# Altium integrated library Cypress PLD Delta39K.IntLib: 82 symbols (part 6 of 21)
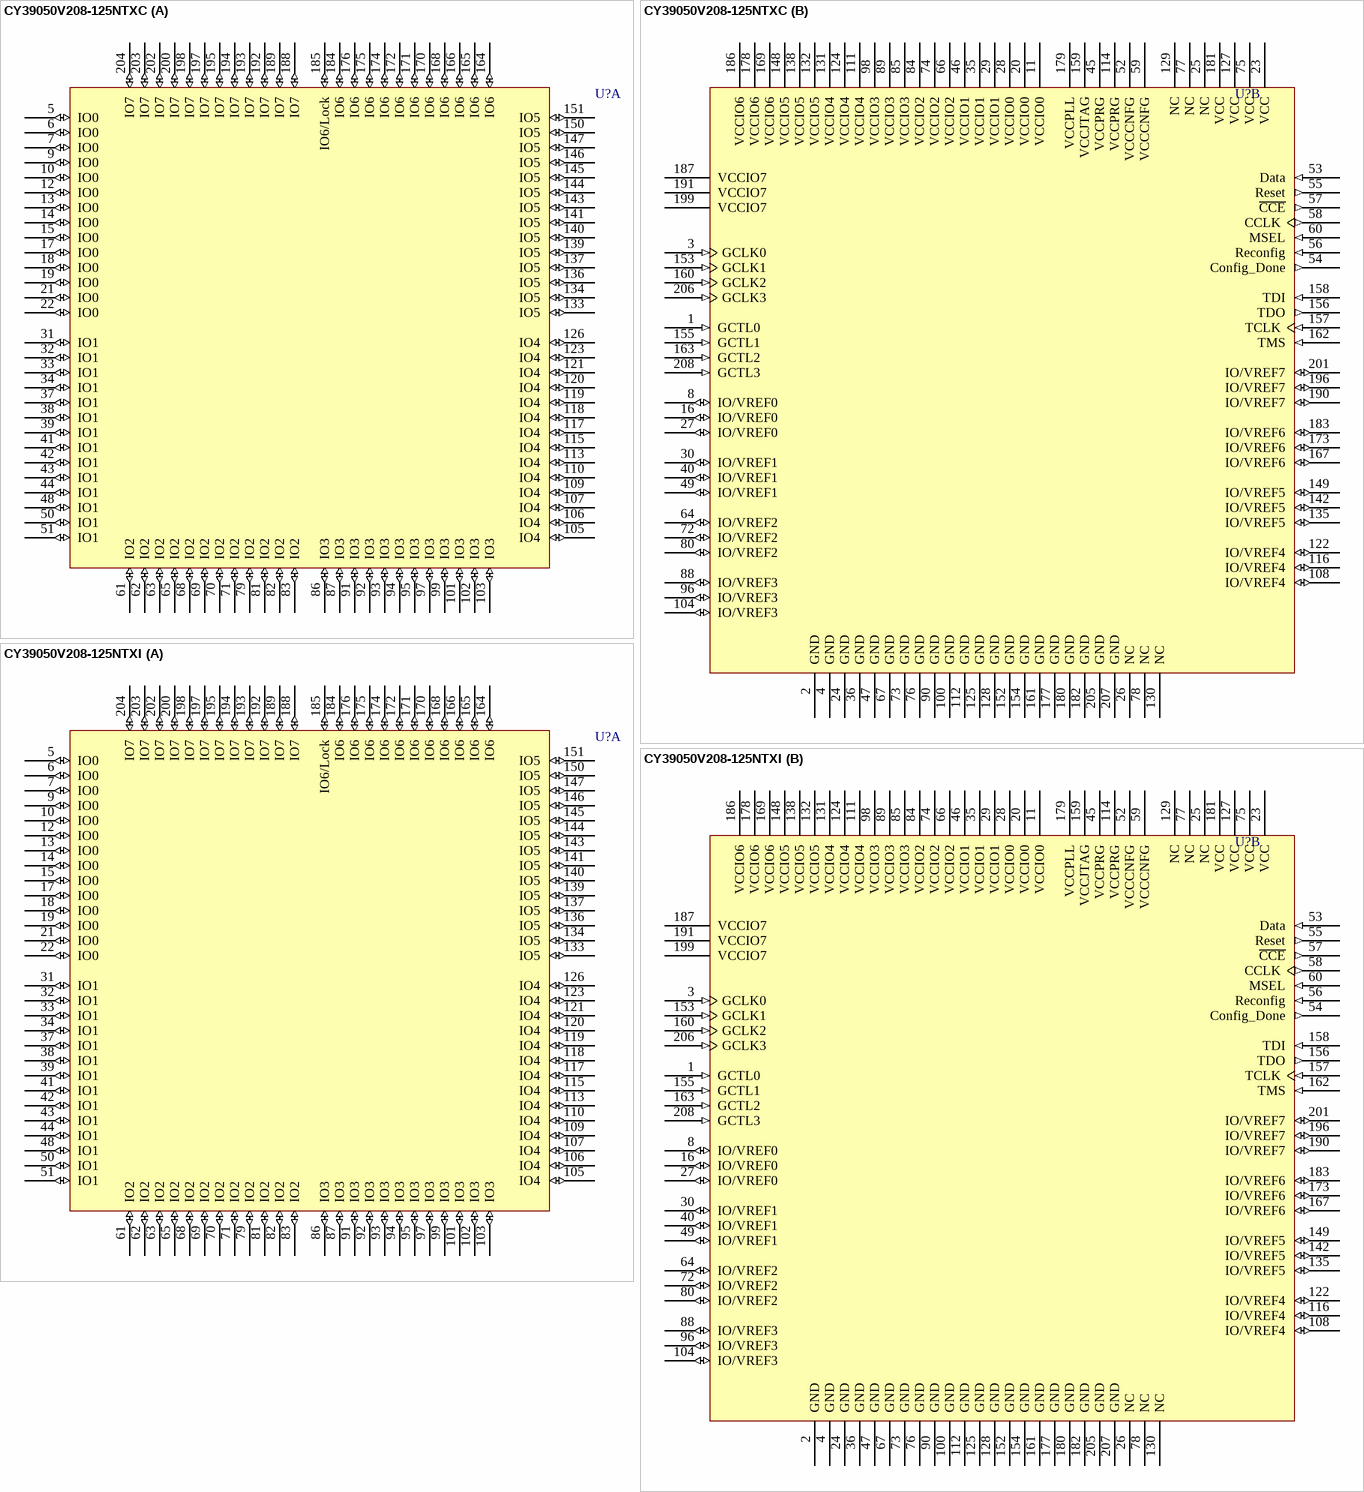
[diagram p83: symbols CY39050V208-125NTXC to CY39050V208-125NTXI]

## CY39050V208-125NTXI
designator U?
Delta39K ISR CPLD, 3.3V/2.5V, 50K Gates, 125 MHz, 208-Lead EQFP, Industrial Grade, Pb-Free; Published: 6-Oct-2005; LatestRevisionDate: 13-Apr-2006; LatestRevisionNote: IPC-7351 Footprint Added.; DatasheetVersion: revI, Mar-2005; PackageVersion: Mar-2002; PackageReference: NT208; Publisher: Altium Limited; PackageDescription: 208-Pin Plastic Shrink Quad Flat Pack 0.5 mm Pitch; ComponentLink1Description: Manufacturer Link; ComponentLink1URL: http://www.cypress.com/; ComponentLink2Description: Datasheet; ComponentLink2URL: http://www.cypress.com/portal/server.pt/gateway/PTARGS_0_601270_1522_209_0_43/http%3B/sjapp20.mis.cypress.com%3B7001/publishedcontent/publish/design_resources/datasheets/contents/cy39030v_5.pdf
footprint NT208_N (Shrink QFP, 208-Leads, Body 28x28mm, Pitch 0.5mm, IPC Medium Density)
footprint NT208_L (Shrink QFP, 208-Leads, Body 28x28mm, Pitch 0.5mm, IPC High Density)
footprint NT208_M (Shrink QFP, 208-Leads, Body 28x28mm, Pitch 0.5mm, IPC Low Density)
3D model CY39050V208-NT208 (208-Pin Plastic Shrink Quad Flat Pack 0.5 mm Pitch)
part A pins: 5 IO0 (io) "IO for Bank 0", 6 IO0 (io) "IO for Bank 0", 7 IO0 (io) "IO for Bank 0", 9 IO0 (io) "IO for Bank 0", 10 IO0 (io) "IO for Bank 0", 12 IO0 (io) "IO for Bank 0", 13 IO0 (io) "IO for Bank 0", 14 IO0 (io) "IO for Bank 0", 15 IO0 (io) "IO for Bank 0", 17 IO0 (io) "IO for Bank 0", 18 IO0 (io) "IO for Bank 0", 19 IO0 (io) "IO for Bank 0", 21 IO0 (io) "IO for Bank 0", 22 IO0 (io) "IO for Bank 0", 31 IO1 (io) "IO for Bank 1", 32 IO1 (io) "IO for Bank 1", 33 IO1 (io) "IO for Bank 1", 34 IO1 (io) "IO for Bank 1", 37 IO1 (io) "IO for Bank 1", 38 IO1 (io) "IO for Bank 1", 39 IO1 (io) "IO for Bank 1", 41 IO1 (io) "IO for Bank 1", 42 IO1 (io) "IO for Bank 1", 43 IO1 (io) "IO for Bank 1", 44 IO1 (io) "IO for Bank 1", 48 IO1 (io) "IO for Bank 1", 50 IO1 (io) "IO for Bank 1", 51 IO1 (io) "IO for Bank 1", 61 IO2 (io) "IO for Bank 2", 62 IO2 (io) "IO for Bank 2", 63 IO2 (io) "IO for Bank 2", 65 IO2 (io) "IO for Bank 2", 68 IO2 (io) "IO for Bank 2", 69 IO2 (io) "IO for Bank 2", 70 IO2 (io) "IO for Bank 2", 71 IO2 (io) "IO for Bank 2", 79 IO2 (io) "IO for Bank 2", 81 IO2 (io) "IO for Bank 2", 82 IO2 (io) "IO for Bank 2", 83 IO2 (io) "IO for Bank 2", 86 IO3 (io) "IO for Bank 3", 87 IO3 (io) "IO for Bank 3", 91 IO3 (io) "IO for Bank 3", 92 IO3 (io) "IO for Bank 3", 93 IO3 (io) "IO for Bank 3", 94 IO3 (io) "IO for Bank 3", 95 IO3 (io) "IO for Bank 3", 97 IO3 (io) "IO for Bank 3", 99 IO3 (io) "IO for Bank 3", 101 IO3 (io) "IO for Bank 3", 102 IO3 (io) "IO for Bank 3", 103 IO3 (io) "IO for Bank 3", 105 IO4 (io) "IO for Bank 4", 106 IO4 (io) "IO for Bank 4", 107 IO4 (io) "IO for Bank 4", 109 IO4 (io) "IO for Bank 4", 110 IO4 (io) "IO for Bank 4", 113 IO4 (io) "IO for Bank 4", 115 IO4 (io) "IO for Bank 4", 117 IO4 (io) "IO for Bank 4", 118 IO4 (io) "IO for Bank 4", 119 IO4 (io) "IO for Bank 4", 120 IO4 (io) "IO for Bank 4", 121 IO4 (io) "IO for Bank 4", 123 IO4 (io) "IO for Bank 4", 126 IO4 (io) "IO for Bank 4", 133 IO5 (io) "IO for Bank 5", 134 IO5 (io) "IO for Bank 5", 136 IO5 (io) "IO for Bank 5", 137 IO5 (io) "IO for Bank 5", 139 IO5 (io) "IO for Bank 5", 140 IO5 (io) "IO for Bank 5", 141 IO5 (io) "IO for Bank 5", 143 IO5 (io) "IO for Bank 5", 144 IO5 (io) "IO for Bank 5", 145 IO5 (io) "IO for Bank 5", 146 IO5 (io) "IO for Bank 5", 147 IO5 (io) "IO for Bank 5", 150 IO5 (io) "IO for Bank 5", 151 IO5 (io) "IO for Bank 5", 164 IO6 (io) "IO for Bank 6", 165 IO6 (io) "IO for Bank 6", 166 IO6 (io) "IO for Bank 6", 168 IO6 (io) "IO for Bank 6", 170 IO6 (io) "IO for Bank 6", 171 IO6 (io) "IO for Bank 6", 172 IO6 (io) "IO for Bank 6", 174 IO6 (io) "IO for Bank 6", 175 IO6 (io) "IO for Bank 6", 176 IO6 (io) "IO for Bank 6", 184 IO6 (io) "IO for Bank 6", 185 IO6/Lock (io) "IO in Bank 6 or PLL lock output signal", 188 IO7 (io) "IO for Bank 7", 189 IO7 (io) "IO for Bank 7", 192 IO7 (io) "IO for Bank 7", 193 IO7 (io) "IO for Bank 7", 194 IO7 (io) "IO for Bank 7", 195 IO7 (io) "IO for Bank 7", 197 IO7 (io) "IO for Bank 7", 198 IO7 (io) "IO for Bank 7", 200 IO7 (io) "IO for Bank 7", 202 IO7 (io) "IO for Bank 7", 203 IO7 (io) "IO for Bank 7", 204 IO7 (io) "IO for Bank 7"
part B pins: 1 GCTL0 (in) "Global Control signal 0", 2 GND (power) "Ground", 3 GCLK0 (in) "Global Clock signal 0", 4 GND (power) "Ground", 8 IO/VREF0 (io) "IO or Reference Voltage for Bank 0", 11 VCCIO0 (power) "VCC for I/O bank 0", 16 IO/VREF0 (io) "IO or Reference Voltage for Bank 0", 20 VCCIO0 (power) "VCC for I/O bank 0", 23 VCC (power) "Operating Voltage", 24 GND (power) "Ground", 25 NC "No Connection", 26 NC "No Connection", 27 IO/VREF0 (io) "IO or Reference Voltage for Bank 0", 28 VCCIO0 (power) "VCC for I/O bank 0", 29 VCCIO1 (power) "VCC for I/O bank 1", 30 IO/VREF1 (io) "IO or Reference Voltage for Bank 1", 35 VCCIO1 (power) "VCC for I/O bank 1", 36 GND (power) "Ground", 40 IO/VREF1 (io) "IO or Reference Voltage for Bank 1", 45 VCCPRG (power) "VCC for programming Self-Boot solution embedded boot PROM", 46 VCCIO1 (power) "VCC for I/O bank 1", 47 GND (power) "Ground", 49 IO/VREF1 (io) "IO or Reference Voltage for Bank 1", 52 VCCCNFG (power) "VCC for Configuration port", 53 Data (in) "Pin to receive configuration data from the external boot PROM", 54 Config_Done (out) "Flag indicating that configuration is complete", 55 Reset (out) "Reset signal to interface with the external boot PROM", 56 Reconfig (in) "Pin to start configuration of Delta39K", 57 ~{CCE} (out) "Chip select for the external boot PROM (active low)", 58 CCLK (out) "Configuration Clock for serial interface with the external boot PROM", 59 VCCCNFG (power) "VCC for Configuration port", 60 MSEL (in) "Mode Select Pin", 64 IO/VREF2 (io) "IO or Reference Voltage for Bank 2", 66 VCCIO2 (power) "VCC for I/O bank 2", 67 GND (power) "Ground", 72 IO/VREF2 (io) "IO or Reference Voltage for Bank 2", 73 GND (power) "Ground", 74 VCCIO2 (power) "VCC for I/O bank 2", 75 VCC (power) "Operating Voltage", 76 GND (power) "Ground", 77 NC "No Connection", 78 NC "No Connection", 80 IO/VREF2 (io) "IO or Reference Voltage for Bank 2", 84 VCCIO2 (power) "VCC for I/O bank 2", 85 VCCIO3 (power) "VCC for I/O bank 3", 88 IO/VREF3 (io) "IO or Reference Voltage for Bank 3", 89 VCCIO3 (power) "VCC for I/O bank 3", 90 GND (power) "Ground", 96 IO/VREF3 (io) "IO or Reference Voltage for Bank 3", 98 VCCIO3 (power) "VCC for I/O bank 3", 100 GND (power) "Ground", 104 IO/VREF3 (io) "IO or Reference Voltage for Bank 3", 108 IO/VREF4 (io) "IO or Reference Voltage for Bank 4", 111 VCCIO4 (power) "VCC for I/O bank 4", 112 GND (power) "Ground", 114 VCCPRG (power) "VCC for programming Self-Boot solution embedded boot PROM", 116 IO/VREF4 (io) "IO or Reference Voltage for Bank 4", 122 IO/VREF4 (io) "IO or Reference Voltage for Bank 4", 124 VCCIO4 (power) "VCC for I/O bank 4", 125 GND (power) "Ground", 127 VCC (power) "Operating Voltage", 128 GND (power) "Ground", 129 NC "No Connection", 130 NC "No Connection", 131 VCCIO4 (power) "VCC for I/O bank 4", 132 VCCIO5 (power) "VCC for I/O bank 5", 135 IO/VREF5 (io) "IO or Reference Voltage for Bank 5", 138 VCCIO5 (power) "VCC for I/O bank 5", 142 IO/VREF5 (io) "IO or Reference Voltage for Bank 5", 148 VCCIO5 (power) "VCC for I/O bank 5", 149 IO/VREF5 (io) "IO or Reference Voltage for Bank 5", 152 GND (power) "Ground", 153 GCLK1 (in) "Global Clock signal 1", 154 GND (power) "Ground", 155 GCTL1 (in) "Global Control signal 1", 156 TDO (out) "JTAG Test Data Out", 157 TCLK (in) "JTAG Test Clock", 158 TDI (in) "JTAG Test Data In", 159 VCCJTAG (power) "VCC for JTAG pins", 160 GCLK2 (in) "Global Clock signal 2", 161 GND (power) "Ground", 162 TMS (in) "JTAG Test Mode Select", 163 GCTL2 (in) "Global Control signal 2", 167 IO/VREF6 (io) "IO or Reference Voltage for Bank 6", 169 VCCIO6 (power) "VCC for I/O bank 6", 173 IO/VREF6 (io) "IO or Reference Voltage for Bank 6", 177 GND (power) "Ground", 178 VCCIO6 (power) "VCC for I/O bank 6", 179 VCCPLL (power) "VCC for PLL", 180 GND (power) "Ground", 181 VCC (power) "Operating Voltage", 182 GND (power) "Ground", 183 IO/VREF6 (io) "IO or Reference Voltage for Bank 6", 186 VCCIO6 (power) "VCC for I/O bank 6", 187 VCCIO7 (power) "VCC for I/O bank 7", 190 IO/VREF7 (io) "IO or Reference Voltage for Bank 7", 191 VCCIO7 (power) "VCC for I/O bank 7", 196 IO/VREF7 (io) "IO or Reference Voltage for Bank 7", 199 VCCIO7 (power) "VCC for I/O bank 7", 201 IO/VREF7 (io) "IO or Reference Voltage for Bank 7", 205 GND (power) "Ground", 206 GCLK3 (in) "Global Clock signal 3", 207 GND (power) "Ground", 208 GCTL3 (in) "Global Control signal 3"

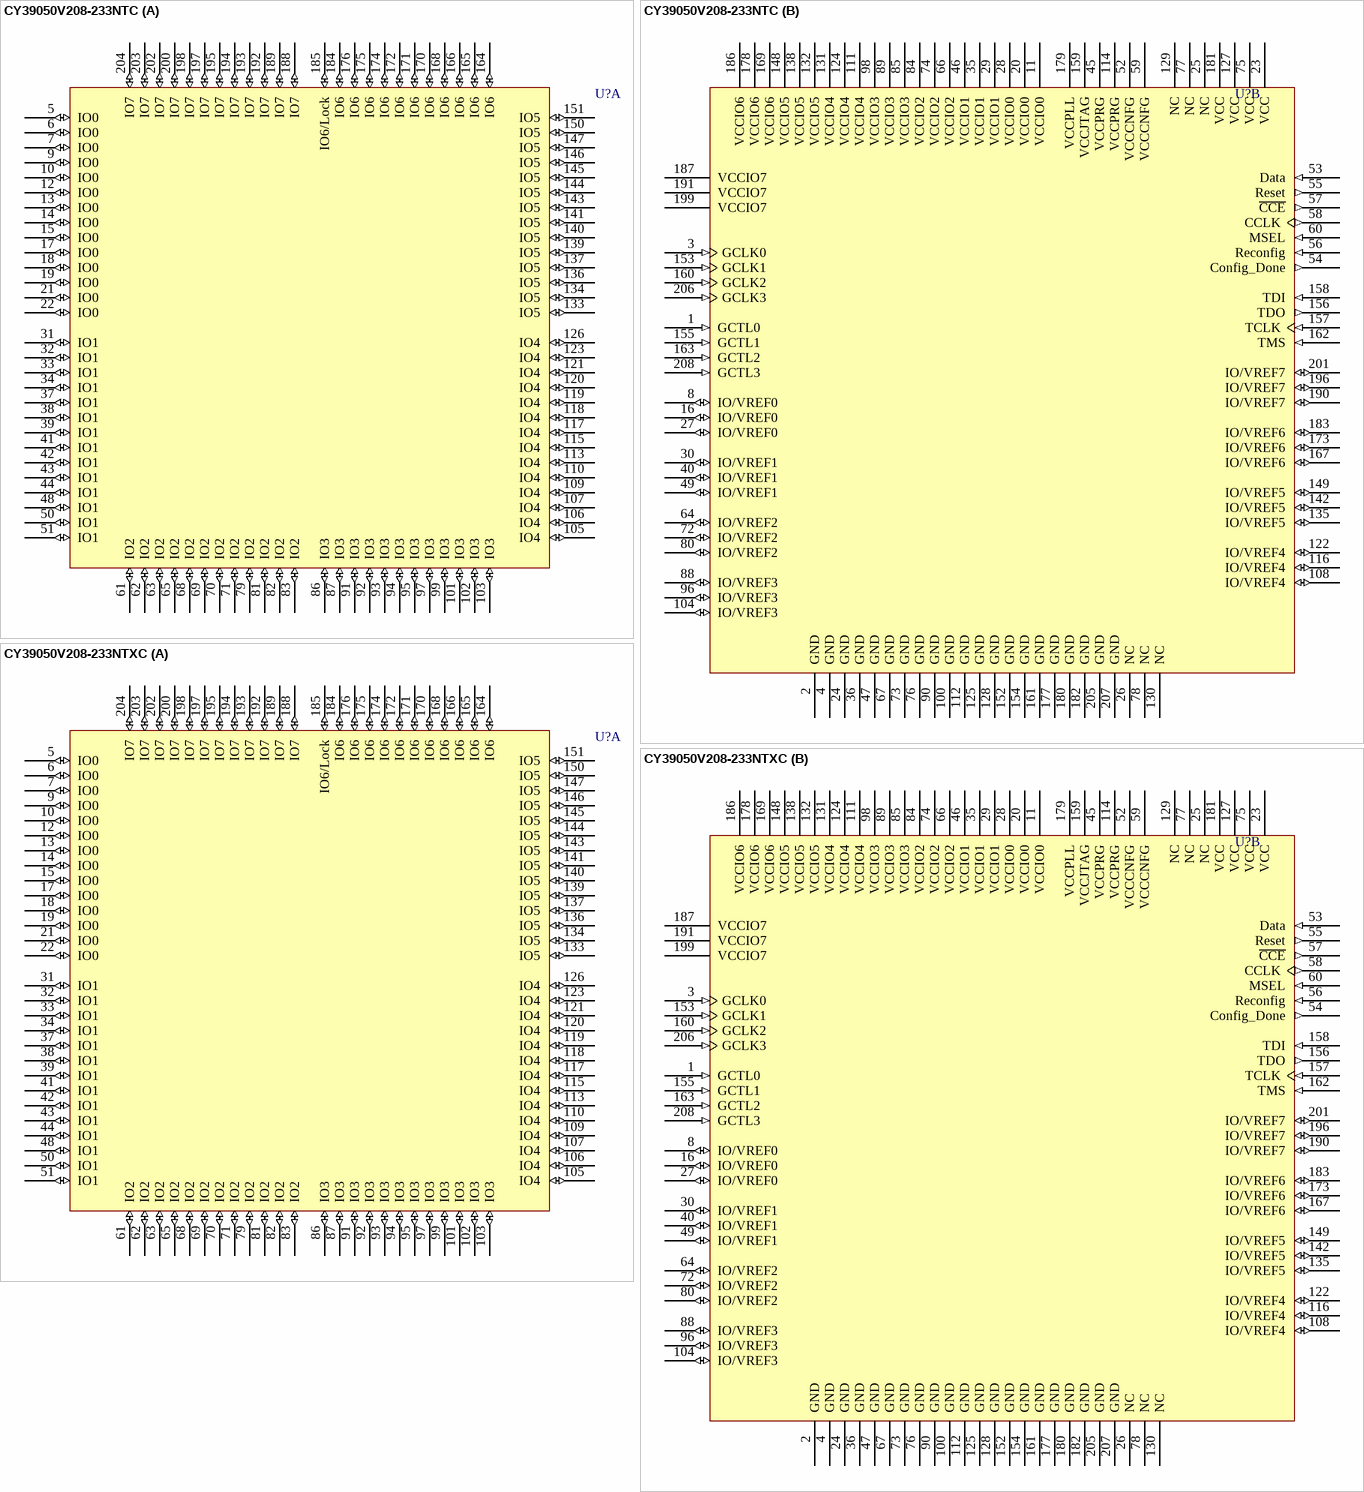
[diagram p13: symbols CY39050V208-233NTC to CY39050V208-233NTXC]

## CY39050V208-233NTC
designator U?
Delta39K ISR CPLD, 3.3V/2.5V, 50K Gates, 233 MHz, 208-Lead EQFP, Commercial Grade; Published: 6-Oct-2005; LatestRevisionDate: 13-Apr-2006; LatestRevisionNote: IPC-7351 Footprint Added.; DatasheetVersion: revI, Mar-2005; PackageVersion: Mar-2002; PackageReference: NT208; Publisher: Altium Limited; PackageDescription: 208-Pin Plastic Shrink Quad Flat Pack 0.5 mm Pitch; ComponentLink1Description: Manufacturer Link; ComponentLink1URL: http://www.cypress.com/; ComponentLink2Description: Datasheet; ComponentLink2URL: http://www.cypress.com/portal/server.pt/gateway/PTARGS_0_601270_1522_209_0_43/http%3B/sjapp20.mis.cypress.com%3B7001/publishedcontent/publish/design_resources/datasheets/contents/cy39030v_5.pdf
footprint NT208_N (Shrink QFP, 208-Leads, Body 28x28mm, Pitch 0.5mm, IPC Medium Density)
footprint NT208_L (Shrink QFP, 208-Leads, Body 28x28mm, Pitch 0.5mm, IPC High Density)
footprint NT208_M (Shrink QFP, 208-Leads, Body 28x28mm, Pitch 0.5mm, IPC Low Density)
3D model CY39050V208-NT208 (208-Pin Plastic Shrink Quad Flat Pack 0.5 mm Pitch)
part A pins: 5 IO0 (io) "IO for Bank 0", 6 IO0 (io) "IO for Bank 0", 7 IO0 (io) "IO for Bank 0", 9 IO0 (io) "IO for Bank 0", 10 IO0 (io) "IO for Bank 0", 12 IO0 (io) "IO for Bank 0", 13 IO0 (io) "IO for Bank 0", 14 IO0 (io) "IO for Bank 0", 15 IO0 (io) "IO for Bank 0", 17 IO0 (io) "IO for Bank 0", 18 IO0 (io) "IO for Bank 0", 19 IO0 (io) "IO for Bank 0", 21 IO0 (io) "IO for Bank 0", 22 IO0 (io) "IO for Bank 0", 31 IO1 (io) "IO for Bank 1", 32 IO1 (io) "IO for Bank 1", 33 IO1 (io) "IO for Bank 1", 34 IO1 (io) "IO for Bank 1", 37 IO1 (io) "IO for Bank 1", 38 IO1 (io) "IO for Bank 1", 39 IO1 (io) "IO for Bank 1", 41 IO1 (io) "IO for Bank 1", 42 IO1 (io) "IO for Bank 1", 43 IO1 (io) "IO for Bank 1", 44 IO1 (io) "IO for Bank 1", 48 IO1 (io) "IO for Bank 1", 50 IO1 (io) "IO for Bank 1", 51 IO1 (io) "IO for Bank 1", 61 IO2 (io) "IO for Bank 2", 62 IO2 (io) "IO for Bank 2", 63 IO2 (io) "IO for Bank 2", 65 IO2 (io) "IO for Bank 2", 68 IO2 (io) "IO for Bank 2", 69 IO2 (io) "IO for Bank 2", 70 IO2 (io) "IO for Bank 2", 71 IO2 (io) "IO for Bank 2", 79 IO2 (io) "IO for Bank 2", 81 IO2 (io) "IO for Bank 2", 82 IO2 (io) "IO for Bank 2", 83 IO2 (io) "IO for Bank 2", 86 IO3 (io) "IO for Bank 3", 87 IO3 (io) "IO for Bank 3", 91 IO3 (io) "IO for Bank 3", 92 IO3 (io) "IO for Bank 3", 93 IO3 (io) "IO for Bank 3", 94 IO3 (io) "IO for Bank 3", 95 IO3 (io) "IO for Bank 3", 97 IO3 (io) "IO for Bank 3", 99 IO3 (io) "IO for Bank 3", 101 IO3 (io) "IO for Bank 3", 102 IO3 (io) "IO for Bank 3", 103 IO3 (io) "IO for Bank 3", 105 IO4 (io) "IO for Bank 4", 106 IO4 (io) "IO for Bank 4", 107 IO4 (io) "IO for Bank 4", 109 IO4 (io) "IO for Bank 4", 110 IO4 (io) "IO for Bank 4", 113 IO4 (io) "IO for Bank 4", 115 IO4 (io) "IO for Bank 4", 117 IO4 (io) "IO for Bank 4", 118 IO4 (io) "IO for Bank 4", 119 IO4 (io) "IO for Bank 4", 120 IO4 (io) "IO for Bank 4", 121 IO4 (io) "IO for Bank 4", 123 IO4 (io) "IO for Bank 4", 126 IO4 (io) "IO for Bank 4", 133 IO5 (io) "IO for Bank 5", 134 IO5 (io) "IO for Bank 5", 136 IO5 (io) "IO for Bank 5", 137 IO5 (io) "IO for Bank 5", 139 IO5 (io) "IO for Bank 5", 140 IO5 (io) "IO for Bank 5", 141 IO5 (io) "IO for Bank 5", 143 IO5 (io) "IO for Bank 5", 144 IO5 (io) "IO for Bank 5", 145 IO5 (io) "IO for Bank 5", 146 IO5 (io) "IO for Bank 5", 147 IO5 (io) "IO for Bank 5", 150 IO5 (io) "IO for Bank 5", 151 IO5 (io) "IO for Bank 5", 164 IO6 (io) "IO for Bank 6", 165 IO6 (io) "IO for Bank 6", 166 IO6 (io) "IO for Bank 6", 168 IO6 (io) "IO for Bank 6", 170 IO6 (io) "IO for Bank 6", 171 IO6 (io) "IO for Bank 6", 172 IO6 (io) "IO for Bank 6", 174 IO6 (io) "IO for Bank 6", 175 IO6 (io) "IO for Bank 6", 176 IO6 (io) "IO for Bank 6", 184 IO6 (io) "IO for Bank 6", 185 IO6/Lock (io) "IO in Bank 6 or PLL lock output signal", 188 IO7 (io) "IO for Bank 7", 189 IO7 (io) "IO for Bank 7", 192 IO7 (io) "IO for Bank 7", 193 IO7 (io) "IO for Bank 7", 194 IO7 (io) "IO for Bank 7", 195 IO7 (io) "IO for Bank 7", 197 IO7 (io) "IO for Bank 7", 198 IO7 (io) "IO for Bank 7", 200 IO7 (io) "IO for Bank 7", 202 IO7 (io) "IO for Bank 7", 203 IO7 (io) "IO for Bank 7", 204 IO7 (io) "IO for Bank 7"
part B pins: 1 GCTL0 (in) "Global Control signal 0", 2 GND (power) "Ground", 3 GCLK0 (in) "Global Clock signal 0", 4 GND (power) "Ground", 8 IO/VREF0 (io) "IO or Reference Voltage for Bank 0", 11 VCCIO0 (power) "VCC for I/O bank 0", 16 IO/VREF0 (io) "IO or Reference Voltage for Bank 0", 20 VCCIO0 (power) "VCC for I/O bank 0", 23 VCC (power) "Operating Voltage", 24 GND (power) "Ground", 25 NC "No Connection", 26 NC "No Connection", 27 IO/VREF0 (io) "IO or Reference Voltage for Bank 0", 28 VCCIO0 (power) "VCC for I/O bank 0", 29 VCCIO1 (power) "VCC for I/O bank 1", 30 IO/VREF1 (io) "IO or Reference Voltage for Bank 1", 35 VCCIO1 (power) "VCC for I/O bank 1", 36 GND (power) "Ground", 40 IO/VREF1 (io) "IO or Reference Voltage for Bank 1", 45 VCCPRG (power) "VCC for programming Self-Boot solution embedded boot PROM", 46 VCCIO1 (power) "VCC for I/O bank 1", 47 GND (power) "Ground", 49 IO/VREF1 (io) "IO or Reference Voltage for Bank 1", 52 VCCCNFG (power) "VCC for Configuration port", 53 Data (in) "Pin to receive configuration data from the external boot PROM", 54 Config_Done (out) "Flag indicating that configuration is complete", 55 Reset (out) "Reset signal to interface with the external boot PROM", 56 Reconfig (in) "Pin to start configuration of Delta39K", 57 ~{CCE} (out) "Chip select for the external boot PROM (active low)", 58 CCLK (out) "Configuration Clock for serial interface with the external boot PROM", 59 VCCCNFG (power) "VCC for Configuration port", 60 MSEL (in) "Mode Select Pin", 64 IO/VREF2 (io) "IO or Reference Voltage for Bank 2", 66 VCCIO2 (power) "VCC for I/O bank 2", 67 GND (power) "Ground", 72 IO/VREF2 (io) "IO or Reference Voltage for Bank 2", 73 GND (power) "Ground", 74 VCCIO2 (power) "VCC for I/O bank 2", 75 VCC (power) "Operating Voltage", 76 GND (power) "Ground", 77 NC "No Connection", 78 NC "No Connection", 80 IO/VREF2 (io) "IO or Reference Voltage for Bank 2", 84 VCCIO2 (power) "VCC for I/O bank 2", 85 VCCIO3 (power) "VCC for I/O bank 3", 88 IO/VREF3 (io) "IO or Reference Voltage for Bank 3", 89 VCCIO3 (power) "VCC for I/O bank 3", 90 GND (power) "Ground", 96 IO/VREF3 (io) "IO or Reference Voltage for Bank 3", 98 VCCIO3 (power) "VCC for I/O bank 3", 100 GND (power) "Ground", 104 IO/VREF3 (io) "IO or Reference Voltage for Bank 3", 108 IO/VREF4 (io) "IO or Reference Voltage for Bank 4", 111 VCCIO4 (power) "VCC for I/O bank 4", 112 GND (power) "Ground", 114 VCCPRG (power) "VCC for programming Self-Boot solution embedded boot PROM", 116 IO/VREF4 (io) "IO or Reference Voltage for Bank 4", 122 IO/VREF4 (io) "IO or Reference Voltage for Bank 4", 124 VCCIO4 (power) "VCC for I/O bank 4", 125 GND (power) "Ground", 127 VCC (power) "Operating Voltage", 128 GND (power) "Ground", 129 NC "No Connection", 130 NC "No Connection", 131 VCCIO4 (power) "VCC for I/O bank 4", 132 VCCIO5 (power) "VCC for I/O bank 5", 135 IO/VREF5 (io) "IO or Reference Voltage for Bank 5", 138 VCCIO5 (power) "VCC for I/O bank 5", 142 IO/VREF5 (io) "IO or Reference Voltage for Bank 5", 148 VCCIO5 (power) "VCC for I/O bank 5", 149 IO/VREF5 (io) "IO or Reference Voltage for Bank 5", 152 GND (power) "Ground", 153 GCLK1 (in) "Global Clock signal 1", 154 GND (power) "Ground", 155 GCTL1 (in) "Global Control signal 1", 156 TDO (out) "JTAG Test Data Out", 157 TCLK (in) "JTAG Test Clock", 158 TDI (in) "JTAG Test Data In", 159 VCCJTAG (power) "VCC for JTAG pins", 160 GCLK2 (in) "Global Clock signal 2", 161 GND (power) "Ground", 162 TMS (in) "JTAG Test Mode Select", 163 GCTL2 (in) "Global Control signal 2", 167 IO/VREF6 (io) "IO or Reference Voltage for Bank 6", 169 VCCIO6 (power) "VCC for I/O bank 6", 173 IO/VREF6 (io) "IO or Reference Voltage for Bank 6", 177 GND (power) "Ground", 178 VCCIO6 (power) "VCC for I/O bank 6", 179 VCCPLL (power) "VCC for PLL", 180 GND (power) "Ground", 181 VCC (power) "Operating Voltage", 182 GND (power) "Ground", 183 IO/VREF6 (io) "IO or Reference Voltage for Bank 6", 186 VCCIO6 (power) "VCC for I/O bank 6", 187 VCCIO7 (power) "VCC for I/O bank 7", 190 IO/VREF7 (io) "IO or Reference Voltage for Bank 7", 191 VCCIO7 (power) "VCC for I/O bank 7", 196 IO/VREF7 (io) "IO or Reference Voltage for Bank 7", 199 VCCIO7 (power) "VCC for I/O bank 7", 201 IO/VREF7 (io) "IO or Reference Voltage for Bank 7", 205 GND (power) "Ground", 206 GCLK3 (in) "Global Clock signal 3", 207 GND (power) "Ground", 208 GCTL3 (in) "Global Control signal 3"

## CY39050V208-233NTXC
designator U?
Delta39K ISR CPLD, 3.3V/2.5V, 50K Gates, 233 MHz, 208-Lead EQFP, Commercial Grade, Pb-Free; Published: 6-Oct-2005; LatestRevisionDate: 13-Apr-2006; LatestRevisionNote: IPC-7351 Footprint Added.; DatasheetVersion: revI, Mar-2005; PackageVersion: Mar-2002; PackageReference: NT208; Publisher: Altium Limited; PackageDescription: 208-Pin Plastic Shrink Quad Flat Pack 0.5 mm Pitch; ComponentLink1Description: Manufacturer Link; ComponentLink1URL: http://www.cypress.com/; ComponentLink2Description: Datasheet; ComponentLink2URL: http://www.cypress.com/portal/server.pt/gateway/PTARGS_0_601270_1522_209_0_43/http%3B/sjapp20.mis.cypress.com%3B7001/publishedcontent/publish/design_resources/datasheets/contents/cy39030v_5.pdf
footprint NT208_N (Shrink QFP, 208-Leads, Body 28x28mm, Pitch 0.5mm, IPC Medium Density)
footprint NT208_L (Shrink QFP, 208-Leads, Body 28x28mm, Pitch 0.5mm, IPC High Density)
footprint NT208_M (Shrink QFP, 208-Leads, Body 28x28mm, Pitch 0.5mm, IPC Low Density)
3D model CY39050V208-NT208 (208-Pin Plastic Shrink Quad Flat Pack 0.5 mm Pitch)
part A pins: 5 IO0 (io) "IO for Bank 0", 6 IO0 (io) "IO for Bank 0", 7 IO0 (io) "IO for Bank 0", 9 IO0 (io) "IO for Bank 0", 10 IO0 (io) "IO for Bank 0", 12 IO0 (io) "IO for Bank 0", 13 IO0 (io) "IO for Bank 0", 14 IO0 (io) "IO for Bank 0", 15 IO0 (io) "IO for Bank 0", 17 IO0 (io) "IO for Bank 0", 18 IO0 (io) "IO for Bank 0", 19 IO0 (io) "IO for Bank 0", 21 IO0 (io) "IO for Bank 0", 22 IO0 (io) "IO for Bank 0", 31 IO1 (io) "IO for Bank 1", 32 IO1 (io) "IO for Bank 1", 33 IO1 (io) "IO for Bank 1", 34 IO1 (io) "IO for Bank 1", 37 IO1 (io) "IO for Bank 1", 38 IO1 (io) "IO for Bank 1", 39 IO1 (io) "IO for Bank 1", 41 IO1 (io) "IO for Bank 1", 42 IO1 (io) "IO for Bank 1", 43 IO1 (io) "IO for Bank 1", 44 IO1 (io) "IO for Bank 1", 48 IO1 (io) "IO for Bank 1", 50 IO1 (io) "IO for Bank 1", 51 IO1 (io) "IO for Bank 1", 61 IO2 (io) "IO for Bank 2", 62 IO2 (io) "IO for Bank 2", 63 IO2 (io) "IO for Bank 2", 65 IO2 (io) "IO for Bank 2", 68 IO2 (io) "IO for Bank 2", 69 IO2 (io) "IO for Bank 2", 70 IO2 (io) "IO for Bank 2", 71 IO2 (io) "IO for Bank 2", 79 IO2 (io) "IO for Bank 2", 81 IO2 (io) "IO for Bank 2", 82 IO2 (io) "IO for Bank 2", 83 IO2 (io) "IO for Bank 2", 86 IO3 (io) "IO for Bank 3", 87 IO3 (io) "IO for Bank 3", 91 IO3 (io) "IO for Bank 3", 92 IO3 (io) "IO for Bank 3", 93 IO3 (io) "IO for Bank 3", 94 IO3 (io) "IO for Bank 3", 95 IO3 (io) "IO for Bank 3", 97 IO3 (io) "IO for Bank 3", 99 IO3 (io) "IO for Bank 3", 101 IO3 (io) "IO for Bank 3", 102 IO3 (io) "IO for Bank 3", 103 IO3 (io) "IO for Bank 3", 105 IO4 (io) "IO for Bank 4", 106 IO4 (io) "IO for Bank 4", 107 IO4 (io) "IO for Bank 4", 109 IO4 (io) "IO for Bank 4", 110 IO4 (io) "IO for Bank 4", 113 IO4 (io) "IO for Bank 4", 115 IO4 (io) "IO for Bank 4", 117 IO4 (io) "IO for Bank 4", 118 IO4 (io) "IO for Bank 4", 119 IO4 (io) "IO for Bank 4", 120 IO4 (io) "IO for Bank 4", 121 IO4 (io) "IO for Bank 4", 123 IO4 (io) "IO for Bank 4", 126 IO4 (io) "IO for Bank 4", 133 IO5 (io) "IO for Bank 5", 134 IO5 (io) "IO for Bank 5", 136 IO5 (io) "IO for Bank 5", 137 IO5 (io) "IO for Bank 5", 139 IO5 (io) "IO for Bank 5", 140 IO5 (io) "IO for Bank 5", 141 IO5 (io) "IO for Bank 5", 143 IO5 (io) "IO for Bank 5", 144 IO5 (io) "IO for Bank 5", 145 IO5 (io) "IO for Bank 5", 146 IO5 (io) "IO for Bank 5", 147 IO5 (io) "IO for Bank 5", 150 IO5 (io) "IO for Bank 5", 151 IO5 (io) "IO for Bank 5", 164 IO6 (io) "IO for Bank 6", 165 IO6 (io) "IO for Bank 6", 166 IO6 (io) "IO for Bank 6", 168 IO6 (io) "IO for Bank 6", 170 IO6 (io) "IO for Bank 6", 171 IO6 (io) "IO for Bank 6", 172 IO6 (io) "IO for Bank 6", 174 IO6 (io) "IO for Bank 6", 175 IO6 (io) "IO for Bank 6", 176 IO6 (io) "IO for Bank 6", 184 IO6 (io) "IO for Bank 6", 185 IO6/Lock (io) "IO in Bank 6 or PLL lock output signal", 188 IO7 (io) "IO for Bank 7", 189 IO7 (io) "IO for Bank 7", 192 IO7 (io) "IO for Bank 7", 193 IO7 (io) "IO for Bank 7", 194 IO7 (io) "IO for Bank 7", 195 IO7 (io) "IO for Bank 7", 197 IO7 (io) "IO for Bank 7", 198 IO7 (io) "IO for Bank 7", 200 IO7 (io) "IO for Bank 7", 202 IO7 (io) "IO for Bank 7", 203 IO7 (io) "IO for Bank 7", 204 IO7 (io) "IO for Bank 7"
part B pins: 1 GCTL0 (in) "Global Control signal 0", 2 GND (power) "Ground", 3 GCLK0 (in) "Global Clock signal 0", 4 GND (power) "Ground", 8 IO/VREF0 (io) "IO or Reference Voltage for Bank 0", 11 VCCIO0 (power) "VCC for I/O bank 0", 16 IO/VREF0 (io) "IO or Reference Voltage for Bank 0", 20 VCCIO0 (power) "VCC for I/O bank 0", 23 VCC (power) "Operating Voltage", 24 GND (power) "Ground", 25 NC "No Connection", 26 NC "No Connection", 27 IO/VREF0 (io) "IO or Reference Voltage for Bank 0", 28 VCCIO0 (power) "VCC for I/O bank 0", 29 VCCIO1 (power) "VCC for I/O bank 1", 30 IO/VREF1 (io) "IO or Reference Voltage for Bank 1", 35 VCCIO1 (power) "VCC for I/O bank 1", 36 GND (power) "Ground", 40 IO/VREF1 (io) "IO or Reference Voltage for Bank 1", 45 VCCPRG (power) "VCC for programming Self-Boot solution embedded boot PROM", 46 VCCIO1 (power) "VCC for I/O bank 1", 47 GND (power) "Ground", 49 IO/VREF1 (io) "IO or Reference Voltage for Bank 1", 52 VCCCNFG (power) "VCC for Configuration port", 53 Data (in) "Pin to receive configuration data from the external boot PROM", 54 Config_Done (out) "Flag indicating that configuration is complete", 55 Reset (out) "Reset signal to interface with the external boot PROM", 56 Reconfig (in) "Pin to start configuration of Delta39K", 57 ~{CCE} (out) "Chip select for the external boot PROM (active low)", 58 CCLK (out) "Configuration Clock for serial interface with the external boot PROM", 59 VCCCNFG (power) "VCC for Configuration port", 60 MSEL (in) "Mode Select Pin", 64 IO/VREF2 (io) "IO or Reference Voltage for Bank 2", 66 VCCIO2 (power) "VCC for I/O bank 2", 67 GND (power) "Ground", 72 IO/VREF2 (io) "IO or Reference Voltage for Bank 2", 73 GND (power) "Ground", 74 VCCIO2 (power) "VCC for I/O bank 2", 75 VCC (power) "Operating Voltage", 76 GND (power) "Ground", 77 NC "No Connection", 78 NC "No Connection", 80 IO/VREF2 (io) "IO or Reference Voltage for Bank 2", 84 VCCIO2 (power) "VCC for I/O bank 2", 85 VCCIO3 (power) "VCC for I/O bank 3", 88 IO/VREF3 (io) "IO or Reference Voltage for Bank 3", 89 VCCIO3 (power) "VCC for I/O bank 3", 90 GND (power) "Ground", 96 IO/VREF3 (io) "IO or Reference Voltage for Bank 3", 98 VCCIO3 (power) "VCC for I/O bank 3", 100 GND (power) "Ground", 104 IO/VREF3 (io) "IO or Reference Voltage for Bank 3", 108 IO/VREF4 (io) "IO or Reference Voltage for Bank 4", 111 VCCIO4 (power) "VCC for I/O bank 4", 112 GND (power) "Ground", 114 VCCPRG (power) "VCC for programming Self-Boot solution embedded boot PROM", 116 IO/VREF4 (io) "IO or Reference Voltage for Bank 4", 122 IO/VREF4 (io) "IO or Reference Voltage for Bank 4", 124 VCCIO4 (power) "VCC for I/O bank 4", 125 GND (power) "Ground", 127 VCC (power) "Operating Voltage", 128 GND (power) "Ground", 129 NC "No Connection", 130 NC "No Connection", 131 VCCIO4 (power) "VCC for I/O bank 4", 132 VCCIO5 (power) "VCC for I/O bank 5", 135 IO/VREF5 (io) "IO or Reference Voltage for Bank 5", 138 VCCIO5 (power) "VCC for I/O bank 5", 142 IO/VREF5 (io) "IO or Reference Voltage for Bank 5", 148 VCCIO5 (power) "VCC for I/O bank 5", 149 IO/VREF5 (io) "IO or Reference Voltage for Bank 5", 152 GND (power) "Ground", 153 GCLK1 (in) "Global Clock signal 1", 154 GND (power) "Ground", 155 GCTL1 (in) "Global Control signal 1", 156 TDO (out) "JTAG Test Data Out", 157 TCLK (in) "JTAG Test Clock", 158 TDI (in) "JTAG Test Data In", 159 VCCJTAG (power) "VCC for JTAG pins", 160 GCLK2 (in) "Global Clock signal 2", 161 GND (power) "Ground", 162 TMS (in) "JTAG Test Mode Select", 163 GCTL2 (in) "Global Control signal 2", 167 IO/VREF6 (io) "IO or Reference Voltage for Bank 6", 169 VCCIO6 (power) "VCC for I/O bank 6", 173 IO/VREF6 (io) "IO or Reference Voltage for Bank 6", 177 GND (power) "Ground", 178 VCCIO6 (power) "VCC for I/O bank 6", 179 VCCPLL (power) "VCC for PLL", 180 GND (power) "Ground", 181 VCC (power) "Operating Voltage", 182 GND (power) "Ground", 183 IO/VREF6 (io) "IO or Reference Voltage for Bank 6", 186 VCCIO6 (power) "VCC for I/O bank 6", 187 VCCIO7 (power) "VCC for I/O bank 7", 190 IO/VREF7 (io) "IO or Reference Voltage for Bank 7", 191 VCCIO7 (power) "VCC for I/O bank 7", 196 IO/VREF7 (io) "IO or Reference Voltage for Bank 7", 199 VCCIO7 (power) "VCC for I/O bank 7", 201 IO/VREF7 (io) "IO or Reference Voltage for Bank 7", 205 GND (power) "Ground", 206 GCLK3 (in) "Global Clock signal 3", 207 GND (power) "Ground", 208 GCTL3 (in) "Global Control signal 3"

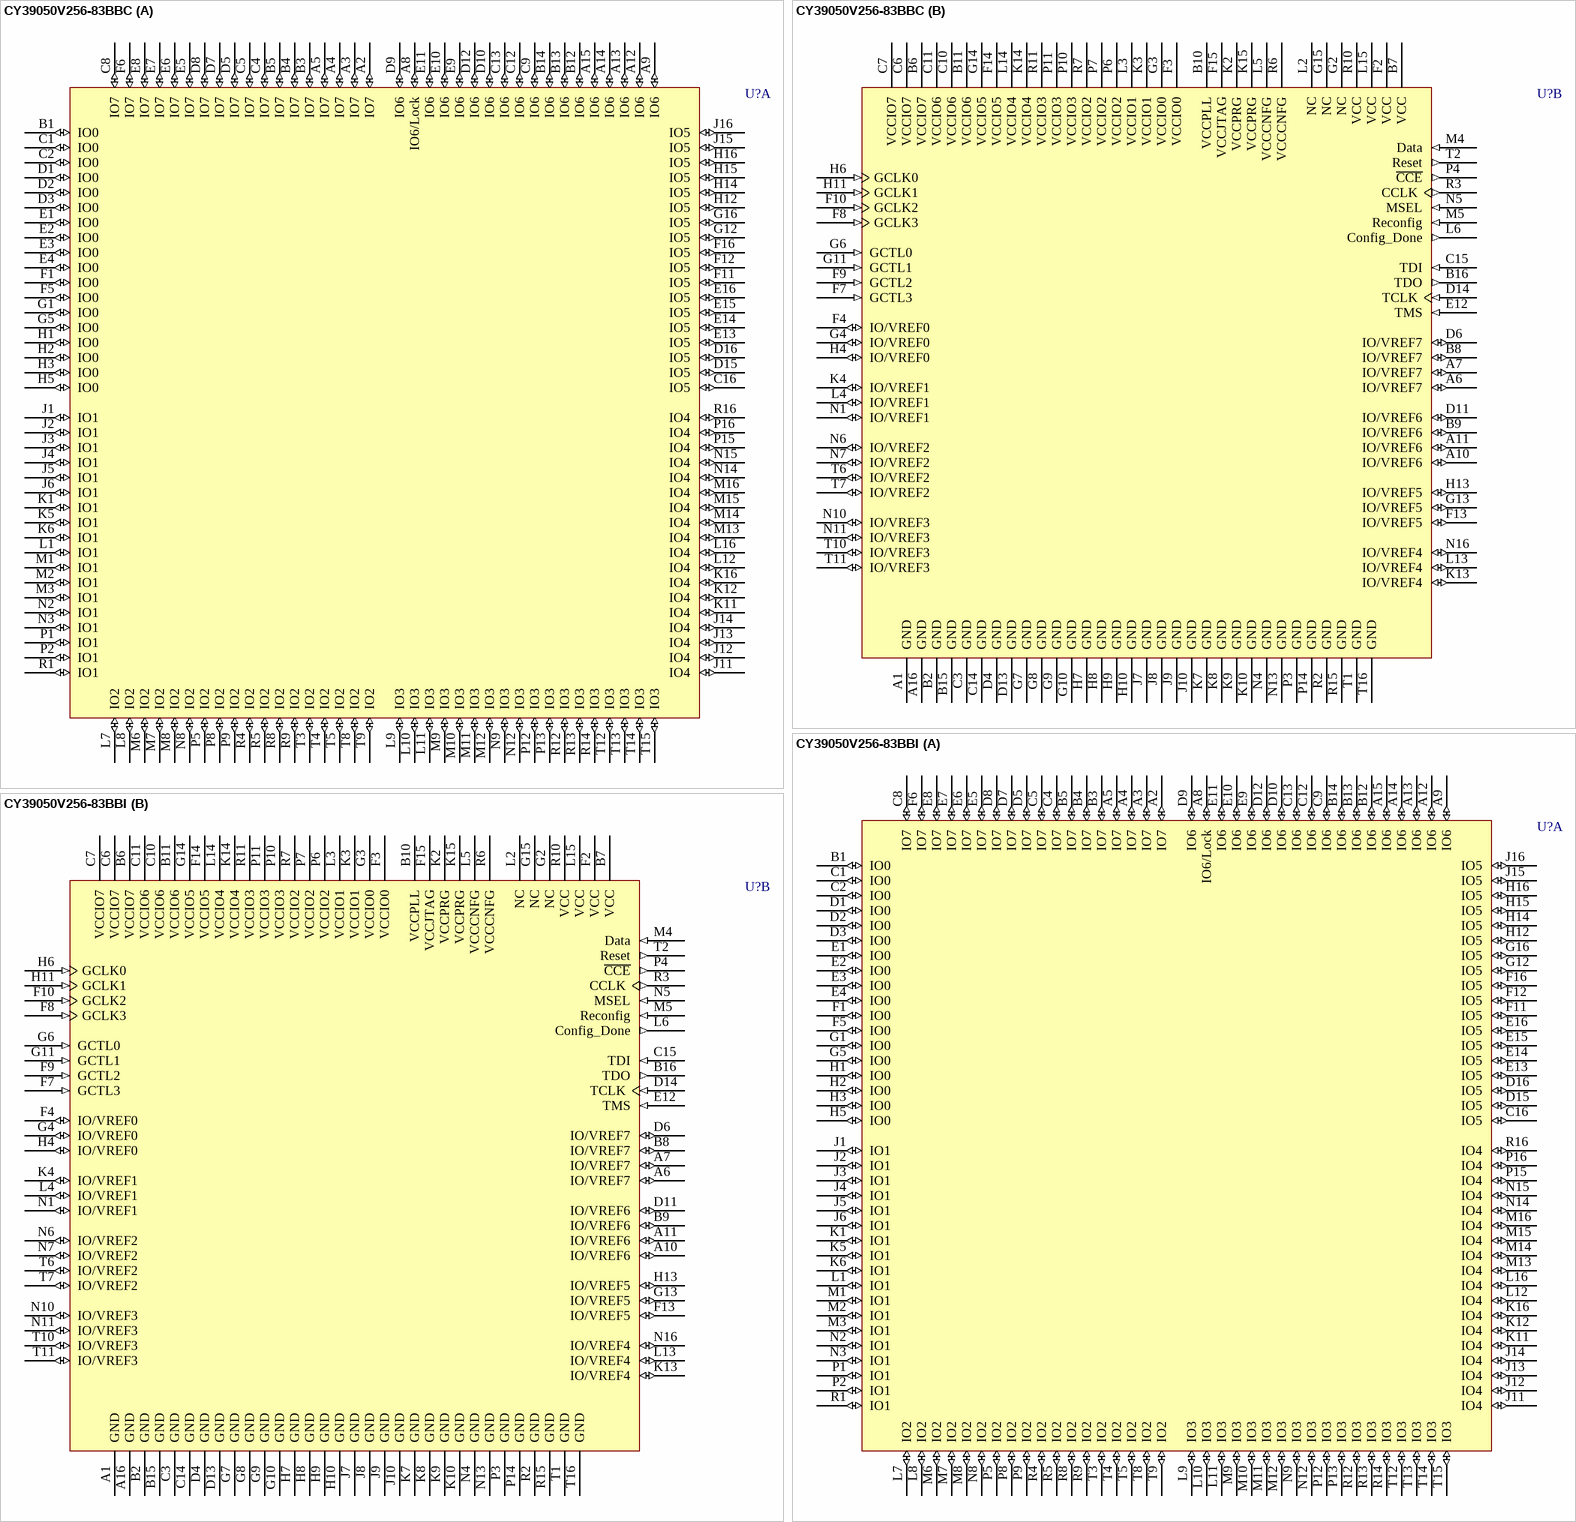
[diagram p14: symbols CY39050V256-83BBC to CY39050V256-83BBI]

## CY39050V256-83BBC
designator U?
Delta39K ISR CPLD, 3.3V/2.5V, 50K Gates, 83 MHz, 256-Ball FBGA, Commercial Grade; Published: 11-Dec-2002; LatestRevisionDate: 13-Apr-2006; LatestRevisionNote: IPC-7351 Footprint Added.; DatasheetVersion: revI, Mar-2005; PackageVersion: revF, Oct-2003; PackageReference: BB256; Publisher: Altium Limited; PackageDescription: 256-Ball Fine Pitch Ball Grid Array 1 mm Pitch (37K & 39K CPLD Devices); Code_JEDEC: MO-192; ComponentLink1Description: Manufacturer Link; ComponentLink1URL: http://www.cypress.com/; ComponentLink2Description: Datasheet; ComponentLink2URL: http://www.cypress.com/portal/server.pt/gateway/PTARGS_0_601270_1522_209_0_43/http%3B/sjapp20.mis.cypress.com%3B7001/publishedcontent/publish/design_resources/datasheets/contents/cy39030v_5.pdf
footprint BB256 (BGA, 256-Leads, Body 17x17mm, Pitch 1mm)
3D model CY39050V256-BB256 (256-Ball Fine Pitch Ball Grid Array 1 mm Pitch (37K & 39K CPLD Devices))
part A pins: A2 IO7 (io) "IO for Bank 7", A3 IO7 (io) "IO for Bank 7", A4 IO7 (io) "IO for Bank 7", A5 IO7 (io) "IO for Bank 7", A8 IO6/Lock (io) "IO in Bank 6 or PLL lock output signal", A9 IO6 (io) "IO for Bank 6", A12 IO6 (io) "IO for Bank 6", A13 IO6 (io) "IO for Bank 6", A14 IO6 (io) "IO for Bank 6", A15 IO6 (io) "IO for Bank 6", B1 IO0 (io) "IO for Bank 0", B3 IO7 (io) "IO for Bank 7", B4 IO7 (io) "IO for Bank 7", B5 IO7 (io) "IO for Bank 7", B12 IO6 (io) "IO for Bank 6", B13 IO6 (io) "IO for Bank 6", B14 IO6 (io) "IO for Bank 6", C1 IO0 (io) "IO for Bank 0", C2 IO0 (io) "IO for Bank 0", C4 IO7 (io) "IO for Bank 7", C5 IO7 (io) "IO for Bank 7", C8 IO7 (io) "IO for Bank 7", C9 IO6 (io) "IO for Bank 6", C12 IO6 (io) "IO for Bank 6", C13 IO6 (io) "IO for Bank 6", C16 IO5 (io) "IO for Bank 5", D1 IO0 (io) "IO for Bank 0", D2 IO0 (io) "IO for Bank 0", D3 IO0 (io) "IO for Bank 0", D5 IO7 (io) "IO for Bank 7", D7 IO7 (io) "IO for Bank 7", D8 IO7 (io) "IO for Bank 7", D9 IO6 (io) "IO for Bank 6", D10 IO6 (io) "IO for Bank 6", D12 IO6 (io) "IO for Bank 6", D15 IO5 (io) "IO for Bank 5", D16 IO5 (io) "IO for Bank 5", E1 IO0 (io) "IO for Bank 0", E2 IO0 (io) "IO for Bank 0", E3 IO0 (io) "IO for Bank 0", E4 IO0 (io) "IO for Bank 0", E5 IO7 (io) "IO for Bank 7", E6 IO7 (io) "IO for Bank 7", E7 IO7 (io) "IO for Bank 7", E8 IO7 (io) "IO for Bank 7", E9 IO6 (io) "IO for Bank 6", E10 IO6 (io) "IO for Bank 6", E11 IO6 (io) "IO for Bank 6", E13 IO5 (io) "IO for Bank 5", E14 IO5 (io) "IO for Bank 5", E15 IO5 (io) "IO for Bank 5", E16 IO5 (io) "IO for Bank 5", F1 IO0 (io) "IO for Bank 0", F5 IO0 (io) "IO for Bank 0", F6 IO7 (io) "IO for Bank 7", F11 IO5 (io) "IO for Bank 5", F12 IO5 (io) "IO for Bank 5", F16 IO5 (io) "IO for Bank 5", G1 IO0 (io) "IO for Bank 0", G5 IO0 (io) "IO for Bank 0", G12 IO5 (io) "IO for Bank 5", G16 IO5 (io) "IO for Bank 5", H1 IO0 (io) "IO for Bank 0", H2 IO0 (io) "IO for Bank 0", H3 IO0 (io) "IO for Bank 0", H5 IO0 (io) "IO for Bank 0", H12 IO5 (io) "IO for Bank 5", H14 IO5 (io) "IO for Bank 5", H15 IO5 (io) "IO for Bank 5", H16 IO5 (io) "IO for Bank 5", J1 IO1 (io) "IO for Bank 1", J2 IO1 (io) "IO for Bank 1", J3 IO1 (io) "IO for Bank 1", J4 IO1 (io) "IO for Bank 1", J5 IO1 (io) "IO for Bank 1", J6 IO1 (io) "IO for Bank 1", J11 IO4 (io) "IO for Bank 4", J12 IO4 (io) "IO for Bank 4", J13 IO4 (io) "IO for Bank 4", J14 IO4 (io) "IO for Bank 4", J15 IO5 (io) "IO for Bank 5", J16 IO5 (io) "IO for Bank 5", K1 IO1 (io) "IO for Bank 1", K5 IO1 (io) "IO for Bank 1", K6 IO1 (io) "IO for Bank 1", K11 IO4 (io) "IO for Bank 4", K12 IO4 (io) "IO for Bank 4", K16 IO4 (io) "IO for Bank 4", L1 IO1 (io) "IO for Bank 1", L7 IO2 (io) "IO for Bank 2", L8 IO2 (io) "IO for Bank 2", L9 IO3 (io) "IO for Bank 3", L10 IO3 (io) "IO for Bank 3", L11 IO3 (io) "IO for Bank 3", L12 IO4 (io) "IO for Bank 4", L16 IO4 (io) "IO for Bank 4", M1 IO1 (io) "IO for Bank 1", M2 IO1 (io) "IO for Bank 1", M3 IO1 (io) "IO for Bank 1", M6 IO2 (io) "IO for Bank 2", M7 IO2 (io) "IO for Bank 2", M8 IO2 (io) "IO for Bank 2", M9 IO3 (io) "IO for Bank 3", M10 IO3 (io) "IO for Bank 3", M11 IO3 (io) "IO for Bank 3", M12 IO3 (io) "IO for Bank 3", M13 IO4 (io) "IO for Bank 4", M14 IO4 (io) "IO for Bank 4", M15 IO4 (io) "IO for Bank 4", M16 IO4 (io) "IO for Bank 4", N2 IO1 (io) "IO for Bank 1", N3 IO1 (io) "IO for Bank 1", N8 IO2 (io) "IO for Bank 2", N9 IO3 (io) "IO for Bank 3", N12 IO3 (io) "IO for Bank 3", N14 IO4 (io) "IO for Bank 4", N15 IO4 (io) "IO for Bank 4", P1 IO1 (io) "IO for Bank 1", P2 IO1 (io) "IO for Bank 1", P5 IO2 (io) "IO for Bank 2", P8 IO2 (io) "IO for Bank 2", P9 IO2 (io) "IO for Bank 2", P12 IO3 (io) "IO for Bank 3", P13 IO3 (io) "IO for Bank 3", P15 IO4 (io) "IO for Bank 4", P16 IO4 (io) "IO for Bank 4", R1 IO1 (io) "IO for Bank 1", R4 IO2 (io) "IO for Bank 2", R5 IO2 (io) "IO for Bank 2", R8 IO2 (io) "IO for Bank 2", R9 IO2 (io) "IO for Bank 2", R12 IO3 (io) "IO for Bank 3", R13 IO3 (io) "IO for Bank 3", R14 IO3 (io) "IO for Bank 3", R16 IO4 (io) "IO for Bank 4", T3 IO2 (io) "IO for Bank 2", T4 IO2 (io) "IO for Bank 2", T5 IO2 (io) "IO for Bank 2", T8 IO2 (io) "IO for Bank 2", T9 IO2 (io) "IO for Bank 2", T12 IO3 (io) "IO for Bank 3", T13 IO3 (io) "IO for Bank 3", T14 IO3 (io) "IO for Bank 3", T15 IO3 (io) "IO for Bank 3"
part B pins: A1 GND (power) "Ground", A6 IO/VREF7 (io) "IO or Reference Voltage for Bank 7", A7 IO/VREF7 (io) "IO or Reference Voltage for Bank 7", A10 IO/VREF6 (io) "IO or Reference Voltage for Bank 6", A11 IO/VREF6 (io) "IO or Reference Voltage for Bank 6", A16 GND (power) "Ground", B2 GND (power) "Ground", B6 VCCIO7 (power) "VCC for I/O bank 7", B7 VCC (power) "Operating Voltage", B8 IO/VREF7 (io) "IO or Reference Voltage for Bank 7", B9 IO/VREF6 (io) "IO or Reference Voltage for Bank 6", B10 VCCPLL (power) "VCC for PLL", B11 VCCIO6 (power) "VCC for I/O bank 6", B15 GND (power) "Ground", B16 TDO (out) "JTAG Test Data Out", C3 GND (power) "Ground", C6 VCCIO7 (power) "VCC for I/O bank 7", C7 VCCIO7 (power) "VCC for I/O bank 7", C10 VCCIO6 (power) "VCC for I/O bank 6", C11 VCCIO6 (power) "VCC for I/O bank 6", C14 GND (power) "Ground", C15 TDI (in) "JTAG Test Data In", D4 GND (power) "Ground", D6 IO/VREF7 (io) "IO or Reference Voltage for Bank 7", D11 IO/VREF6 (io) "IO or Reference Voltage for Bank 6", D13 GND (power) "Ground", D14 TCLK (in) "JTAG Test Clock", E12 TMS (in) "JTAG Test Mode Select", F2 VCC (power) "Operating Voltage", F3 VCCIO0 (power) "VCC for I/O bank 0", F4 IO/VREF0 (io) "IO or Reference Voltage for Bank 0", F7 GCTL3 (in) "Global Control signal 3", F8 GCLK3 (in) "Global Clock signal 3", F9 GCTL2 (in) "Global Control signal 2", F10 GCLK2 (in) "Global Clock signal 2", F13 IO/VREF5 (io) "IO or Reference Voltage for Bank 5", F14 VCCIO5 (power) "VCC for I/O bank 5", F15 VCCJTAG (power) "VCC for JTAG pins", G2 NC "No Connection", G3 VCCIO0 (power) "VCC for I/O bank 0", G4 IO/VREF0 (io) "IO or Reference Voltage for Bank 0", G6 GCTL0 (in) "Global Control signal 0", G7 GND (power) "Ground", G8 GND (power) "Ground", G9 GND (power) "Ground", G10 GND (power) "Ground", G11 GCTL1 (in) "Global Control signal 1", G13 IO/VREF5 (io) "IO or Reference Voltage for Bank 5", G14 VCCIO5 (power) "VCC for I/O bank 5", G15 NC "No Connection", H4 IO/VREF0 (io) "IO or Reference Voltage for Bank 0", H6 GCLK0 (in) "Global Clock signal 0", H7 GND (power) "Ground", H8 GND (power) "Ground", H9 GND (power) "Ground", H10 GND (power) "Ground", H11 GCLK1 (in) "Global Clock signal 1", H13 IO/VREF5 (io) "IO or Reference Voltage for Bank 5", J7 GND (power) "Ground", J8 GND (power) "Ground", J9 GND (power) "Ground", J10 GND (power) "Ground", K2 VCCPRG (power) "VCC for programming Self-Boot solution embedded boot PROM", K3 VCCIO1 (power) "VCC for I/O bank 1", K4 IO/VREF1 (io) "IO or Reference Voltage for Bank 1", K7 GND (power) "Ground", K8 GND (power) "Ground", K9 GND (power) "Ground", K10 GND (power) "Ground", K13 IO/VREF4 (io) "IO or Reference Voltage for Bank 4", K14 VCCIO4 (power) "VCC for I/O bank 4", K15 VCCPRG (power) "VCC for programming Self-Boot solution embedded boot PROM", L2 NC "No Connection", L3 VCCIO1 (power) "VCC for I/O bank 1", L4 IO/VREF1 (io) "IO or Reference Voltage for Bank 1", L5 VCCCNFG (power) "VCC for Configuration port", L6 Config_Done (out) "Flag indicating that configuration is complete", L13 IO/VREF4 (io) "IO or Reference Voltage for Bank 4", L14 VCCIO4 (power) "VCC for I/O bank 4", L15 VCC (power) "Operating Voltage", M4 Data (in) "Pin to receive configuration data from the external boot PROM", M5 Reconfig (in) "Pin to start configuration of Delta39K", N1 IO/VREF1 (io) "IO or Reference Voltage for Bank 1", N4 GND (power) "Ground", N5 MSEL (in) "Mode Select Pin", N6 IO/VREF2 (io) "IO or Reference Voltage for Bank 2", N7 IO/VREF2 (io) "IO or Reference Voltage for Bank 2", N10 IO/VREF3 (io) "IO or Reference Voltage for Bank 3", N11 IO/VREF3 (io) "IO or Reference Voltage for Bank 3", N13 GND (power) "Ground", N16 IO/VREF4 (io) "IO or Reference Voltage for Bank 4", P3 GND (power) "Ground", P4 ~{CCE} (out) "Chip select for the external boot PROM (active low)", P6 VCCIO2 (power) "VCC for I/O bank 2", P7 VCCIO2 (power) "VCC for I/O bank 2", P10 VCCIO3 (power) "VCC for I/O bank 3", P11 VCCIO3 (power) "VCC for I/O bank 3", P14 GND (power) "Ground", R2 GND (power) "Ground", R3 CCLK (out) "Configuration Clock for serial interface with the external boot PROM", R6 VCCCNFG (power) "VCC for Configuration port", R7 VCCIO2 (power) "VCC for I/O bank 2", R10 VCC (power) "Operating Voltage", R11 VCCIO3 (power) "VCC for I/O bank 3", R15 GND (power) "Ground", T1 GND (power) "Ground", T2 Reset (out) "Reset signal to interface with the external boot PROM", T6 IO/VREF2 (io) "IO or Reference Voltage for Bank 2", T7 IO/VREF2 (io) "IO or Reference Voltage for Bank 2", T10 IO/VREF3 (io) "IO or Reference Voltage for Bank 3", T11 IO/VREF3 (io) "IO or Reference Voltage for Bank 3", T16 GND (power) "Ground"

## CY39050V256-83BBI
designator U?
Delta39K ISR CPLD, 3.3V/2.5V, 50K Gates, 83 MHz, 256-Ball FBGA, Industrial Grade; ComponentAvailability: Obsolete; Published: 11-Dec-2002; LatestRevisionDate: 13-Apr-2006; LatestRevisionNote: IPC-7351 Footprint Added.; DatasheetVersion: revI, Mar-2005; PackageVersion: revF, Oct-2003; PackageReference: BB256; Publisher: Altium Limited; PackageDescription: 256-Ball Fine Pitch Ball Grid Array 1 mm Pitch (37K & 39K CPLD Devices); Code_JEDEC: MO-192; ComponentLink1Description: Manufacturer Link; ComponentLink1URL: http://www.cypress.com/; ComponentLink2Description: Datasheet; ComponentLink2URL: http://www.cypress.com/portal/server.pt/gateway/PTARGS_0_601270_1522_209_0_43/http%3B/sjapp20.mis.cypress.com%3B7001/publishedcontent/publish/design_resources/datasheets/contents/cy39030v_5.pdf
footprint BB256 (BGA, 256-Leads, Body 17x17mm, Pitch 1mm)
3D model CY39050V256-BB256 (256-Ball Fine Pitch Ball Grid Array 1 mm Pitch (37K & 39K CPLD Devices))
part A pins: A2 IO7 (io) "IO for Bank 7", A3 IO7 (io) "IO for Bank 7", A4 IO7 (io) "IO for Bank 7", A5 IO7 (io) "IO for Bank 7", A8 IO6/Lock (io) "IO in Bank 6 or PLL lock output signal", A9 IO6 (io) "IO for Bank 6", A12 IO6 (io) "IO for Bank 6", A13 IO6 (io) "IO for Bank 6", A14 IO6 (io) "IO for Bank 6", A15 IO6 (io) "IO for Bank 6", B1 IO0 (io) "IO for Bank 0", B3 IO7 (io) "IO for Bank 7", B4 IO7 (io) "IO for Bank 7", B5 IO7 (io) "IO for Bank 7", B12 IO6 (io) "IO for Bank 6", B13 IO6 (io) "IO for Bank 6", B14 IO6 (io) "IO for Bank 6", C1 IO0 (io) "IO for Bank 0", C2 IO0 (io) "IO for Bank 0", C4 IO7 (io) "IO for Bank 7", C5 IO7 (io) "IO for Bank 7", C8 IO7 (io) "IO for Bank 7", C9 IO6 (io) "IO for Bank 6", C12 IO6 (io) "IO for Bank 6", C13 IO6 (io) "IO for Bank 6", C16 IO5 (io) "IO for Bank 5", D1 IO0 (io) "IO for Bank 0", D2 IO0 (io) "IO for Bank 0", D3 IO0 (io) "IO for Bank 0", D5 IO7 (io) "IO for Bank 7", D7 IO7 (io) "IO for Bank 7", D8 IO7 (io) "IO for Bank 7", D9 IO6 (io) "IO for Bank 6", D10 IO6 (io) "IO for Bank 6", D12 IO6 (io) "IO for Bank 6", D15 IO5 (io) "IO for Bank 5", D16 IO5 (io) "IO for Bank 5", E1 IO0 (io) "IO for Bank 0", E2 IO0 (io) "IO for Bank 0", E3 IO0 (io) "IO for Bank 0", E4 IO0 (io) "IO for Bank 0", E5 IO7 (io) "IO for Bank 7", E6 IO7 (io) "IO for Bank 7", E7 IO7 (io) "IO for Bank 7", E8 IO7 (io) "IO for Bank 7", E9 IO6 (io) "IO for Bank 6", E10 IO6 (io) "IO for Bank 6", E11 IO6 (io) "IO for Bank 6", E13 IO5 (io) "IO for Bank 5", E14 IO5 (io) "IO for Bank 5", E15 IO5 (io) "IO for Bank 5", E16 IO5 (io) "IO for Bank 5", F1 IO0 (io) "IO for Bank 0", F5 IO0 (io) "IO for Bank 0", F6 IO7 (io) "IO for Bank 7", F11 IO5 (io) "IO for Bank 5", F12 IO5 (io) "IO for Bank 5", F16 IO5 (io) "IO for Bank 5", G1 IO0 (io) "IO for Bank 0", G5 IO0 (io) "IO for Bank 0", G12 IO5 (io) "IO for Bank 5", G16 IO5 (io) "IO for Bank 5", H1 IO0 (io) "IO for Bank 0", H2 IO0 (io) "IO for Bank 0", H3 IO0 (io) "IO for Bank 0", H5 IO0 (io) "IO for Bank 0", H12 IO5 (io) "IO for Bank 5", H14 IO5 (io) "IO for Bank 5", H15 IO5 (io) "IO for Bank 5", H16 IO5 (io) "IO for Bank 5", J1 IO1 (io) "IO for Bank 1", J2 IO1 (io) "IO for Bank 1", J3 IO1 (io) "IO for Bank 1", J4 IO1 (io) "IO for Bank 1", J5 IO1 (io) "IO for Bank 1", J6 IO1 (io) "IO for Bank 1", J11 IO4 (io) "IO for Bank 4", J12 IO4 (io) "IO for Bank 4", J13 IO4 (io) "IO for Bank 4", J14 IO4 (io) "IO for Bank 4", J15 IO5 (io) "IO for Bank 5", J16 IO5 (io) "IO for Bank 5", K1 IO1 (io) "IO for Bank 1", K5 IO1 (io) "IO for Bank 1", K6 IO1 (io) "IO for Bank 1", K11 IO4 (io) "IO for Bank 4", K12 IO4 (io) "IO for Bank 4", K16 IO4 (io) "IO for Bank 4", L1 IO1 (io) "IO for Bank 1", L7 IO2 (io) "IO for Bank 2", L8 IO2 (io) "IO for Bank 2", L9 IO3 (io) "IO for Bank 3", L10 IO3 (io) "IO for Bank 3", L11 IO3 (io) "IO for Bank 3", L12 IO4 (io) "IO for Bank 4", L16 IO4 (io) "IO for Bank 4", M1 IO1 (io) "IO for Bank 1", M2 IO1 (io) "IO for Bank 1", M3 IO1 (io) "IO for Bank 1", M6 IO2 (io) "IO for Bank 2", M7 IO2 (io) "IO for Bank 2", M8 IO2 (io) "IO for Bank 2", M9 IO3 (io) "IO for Bank 3", M10 IO3 (io) "IO for Bank 3", M11 IO3 (io) "IO for Bank 3", M12 IO3 (io) "IO for Bank 3", M13 IO4 (io) "IO for Bank 4", M14 IO4 (io) "IO for Bank 4", M15 IO4 (io) "IO for Bank 4", M16 IO4 (io) "IO for Bank 4", N2 IO1 (io) "IO for Bank 1", N3 IO1 (io) "IO for Bank 1", N8 IO2 (io) "IO for Bank 2", N9 IO3 (io) "IO for Bank 3", N12 IO3 (io) "IO for Bank 3", N14 IO4 (io) "IO for Bank 4", N15 IO4 (io) "IO for Bank 4", P1 IO1 (io) "IO for Bank 1", P2 IO1 (io) "IO for Bank 1", P5 IO2 (io) "IO for Bank 2", P8 IO2 (io) "IO for Bank 2", P9 IO2 (io) "IO for Bank 2", P12 IO3 (io) "IO for Bank 3", P13 IO3 (io) "IO for Bank 3", P15 IO4 (io) "IO for Bank 4", P16 IO4 (io) "IO for Bank 4", R1 IO1 (io) "IO for Bank 1", R4 IO2 (io) "IO for Bank 2", R5 IO2 (io) "IO for Bank 2", R8 IO2 (io) "IO for Bank 2", R9 IO2 (io) "IO for Bank 2", R12 IO3 (io) "IO for Bank 3", R13 IO3 (io) "IO for Bank 3", R14 IO3 (io) "IO for Bank 3", R16 IO4 (io) "IO for Bank 4", T3 IO2 (io) "IO for Bank 2", T4 IO2 (io) "IO for Bank 2", T5 IO2 (io) "IO for Bank 2", T8 IO2 (io) "IO for Bank 2", T9 IO2 (io) "IO for Bank 2", T12 IO3 (io) "IO for Bank 3", T13 IO3 (io) "IO for Bank 3", T14 IO3 (io) "IO for Bank 3", T15 IO3 (io) "IO for Bank 3"
part B pins: A1 GND (power) "Ground", A6 IO/VREF7 (io) "IO or Reference Voltage for Bank 7", A7 IO/VREF7 (io) "IO or Reference Voltage for Bank 7", A10 IO/VREF6 (io) "IO or Reference Voltage for Bank 6", A11 IO/VREF6 (io) "IO or Reference Voltage for Bank 6", A16 GND (power) "Ground", B2 GND (power) "Ground", B6 VCCIO7 (power) "VCC for I/O bank 7", B7 VCC (power) "Operating Voltage", B8 IO/VREF7 (io) "IO or Reference Voltage for Bank 7", B9 IO/VREF6 (io) "IO or Reference Voltage for Bank 6", B10 VCCPLL (power) "VCC for PLL", B11 VCCIO6 (power) "VCC for I/O bank 6", B15 GND (power) "Ground", B16 TDO (out) "JTAG Test Data Out", C3 GND (power) "Ground", C6 VCCIO7 (power) "VCC for I/O bank 7", C7 VCCIO7 (power) "VCC for I/O bank 7", C10 VCCIO6 (power) "VCC for I/O bank 6", C11 VCCIO6 (power) "VCC for I/O bank 6", C14 GND (power) "Ground", C15 TDI (in) "JTAG Test Data In", D4 GND (power) "Ground", D6 IO/VREF7 (io) "IO or Reference Voltage for Bank 7", D11 IO/VREF6 (io) "IO or Reference Voltage for Bank 6", D13 GND (power) "Ground", D14 TCLK (in) "JTAG Test Clock", E12 TMS (in) "JTAG Test Mode Select", F2 VCC (power) "Operating Voltage", F3 VCCIO0 (power) "VCC for I/O bank 0", F4 IO/VREF0 (io) "IO or Reference Voltage for Bank 0", F7 GCTL3 (in) "Global Control signal 3", F8 GCLK3 (in) "Global Clock signal 3", F9 GCTL2 (in) "Global Control signal 2", F10 GCLK2 (in) "Global Clock signal 2", F13 IO/VREF5 (io) "IO or Reference Voltage for Bank 5", F14 VCCIO5 (power) "VCC for I/O bank 5", F15 VCCJTAG (power) "VCC for JTAG pins", G2 NC "No Connection", G3 VCCIO0 (power) "VCC for I/O bank 0", G4 IO/VREF0 (io) "IO or Reference Voltage for Bank 0", G6 GCTL0 (in) "Global Control signal 0", G7 GND (power) "Ground", G8 GND (power) "Ground", G9 GND (power) "Ground", G10 GND (power) "Ground", G11 GCTL1 (in) "Global Control signal 1", G13 IO/VREF5 (io) "IO or Reference Voltage for Bank 5", G14 VCCIO5 (power) "VCC for I/O bank 5", G15 NC "No Connection", H4 IO/VREF0 (io) "IO or Reference Voltage for Bank 0", H6 GCLK0 (in) "Global Clock signal 0", H7 GND (power) "Ground", H8 GND (power) "Ground", H9 GND (power) "Ground", H10 GND (power) "Ground", H11 GCLK1 (in) "Global Clock signal 1", H13 IO/VREF5 (io) "IO or Reference Voltage for Bank 5", J7 GND (power) "Ground", J8 GND (power) "Ground", J9 GND (power) "Ground", J10 GND (power) "Ground", K2 VCCPRG (power) "VCC for programming Self-Boot solution embedded boot PROM", K3 VCCIO1 (power) "VCC for I/O bank 1", K4 IO/VREF1 (io) "IO or Reference Voltage for Bank 1", K7 GND (power) "Ground", K8 GND (power) "Ground", K9 GND (power) "Ground", K10 GND (power) "Ground", K13 IO/VREF4 (io) "IO or Reference Voltage for Bank 4", K14 VCCIO4 (power) "VCC for I/O bank 4", K15 VCCPRG (power) "VCC for programming Self-Boot solution embedded boot PROM", L2 NC "No Connection", L3 VCCIO1 (power) "VCC for I/O bank 1", L4 IO/VREF1 (io) "IO or Reference Voltage for Bank 1", L5 VCCCNFG (power) "VCC for Configuration port", L6 Config_Done (out) "Flag indicating that configuration is complete", L13 IO/VREF4 (io) "IO or Reference Voltage for Bank 4", L14 VCCIO4 (power) "VCC for I/O bank 4", L15 VCC (power) "Operating Voltage", M4 Data (in) "Pin to receive configuration data from the external boot PROM", M5 Reconfig (in) "Pin to start configuration of Delta39K", N1 IO/VREF1 (io) "IO or Reference Voltage for Bank 1", N4 GND (power) "Ground", N5 MSEL (in) "Mode Select Pin", N6 IO/VREF2 (io) "IO or Reference Voltage for Bank 2", N7 IO/VREF2 (io) "IO or Reference Voltage for Bank 2", N10 IO/VREF3 (io) "IO or Reference Voltage for Bank 3", N11 IO/VREF3 (io) "IO or Reference Voltage for Bank 3", N13 GND (power) "Ground", N16 IO/VREF4 (io) "IO or Reference Voltage for Bank 4", P3 GND (power) "Ground", P4 ~{CCE} (out) "Chip select for the external boot PROM (active low)", P6 VCCIO2 (power) "VCC for I/O bank 2", P7 VCCIO2 (power) "VCC for I/O bank 2", P10 VCCIO3 (power) "VCC for I/O bank 3", P11 VCCIO3 (power) "VCC for I/O bank 3", P14 GND (power) "Ground", R2 GND (power) "Ground", R3 CCLK (out) "Configuration Clock for serial interface with the external boot PROM", R6 VCCCNFG (power) "VCC for Configuration port", R7 VCCIO2 (power) "VCC for I/O bank 2", R10 VCC (power) "Operating Voltage", R11 VCCIO3 (power) "VCC for I/O bank 3", R15 GND (power) "Ground", T1 GND (power) "Ground", T2 Reset (out) "Reset signal to interface with the external boot PROM", T6 IO/VREF2 (io) "IO or Reference Voltage for Bank 2", T7 IO/VREF2 (io) "IO or Reference Voltage for Bank 2", T10 IO/VREF3 (io) "IO or Reference Voltage for Bank 3", T11 IO/VREF3 (io) "IO or Reference Voltage for Bank 3", T16 GND (power) "Ground"

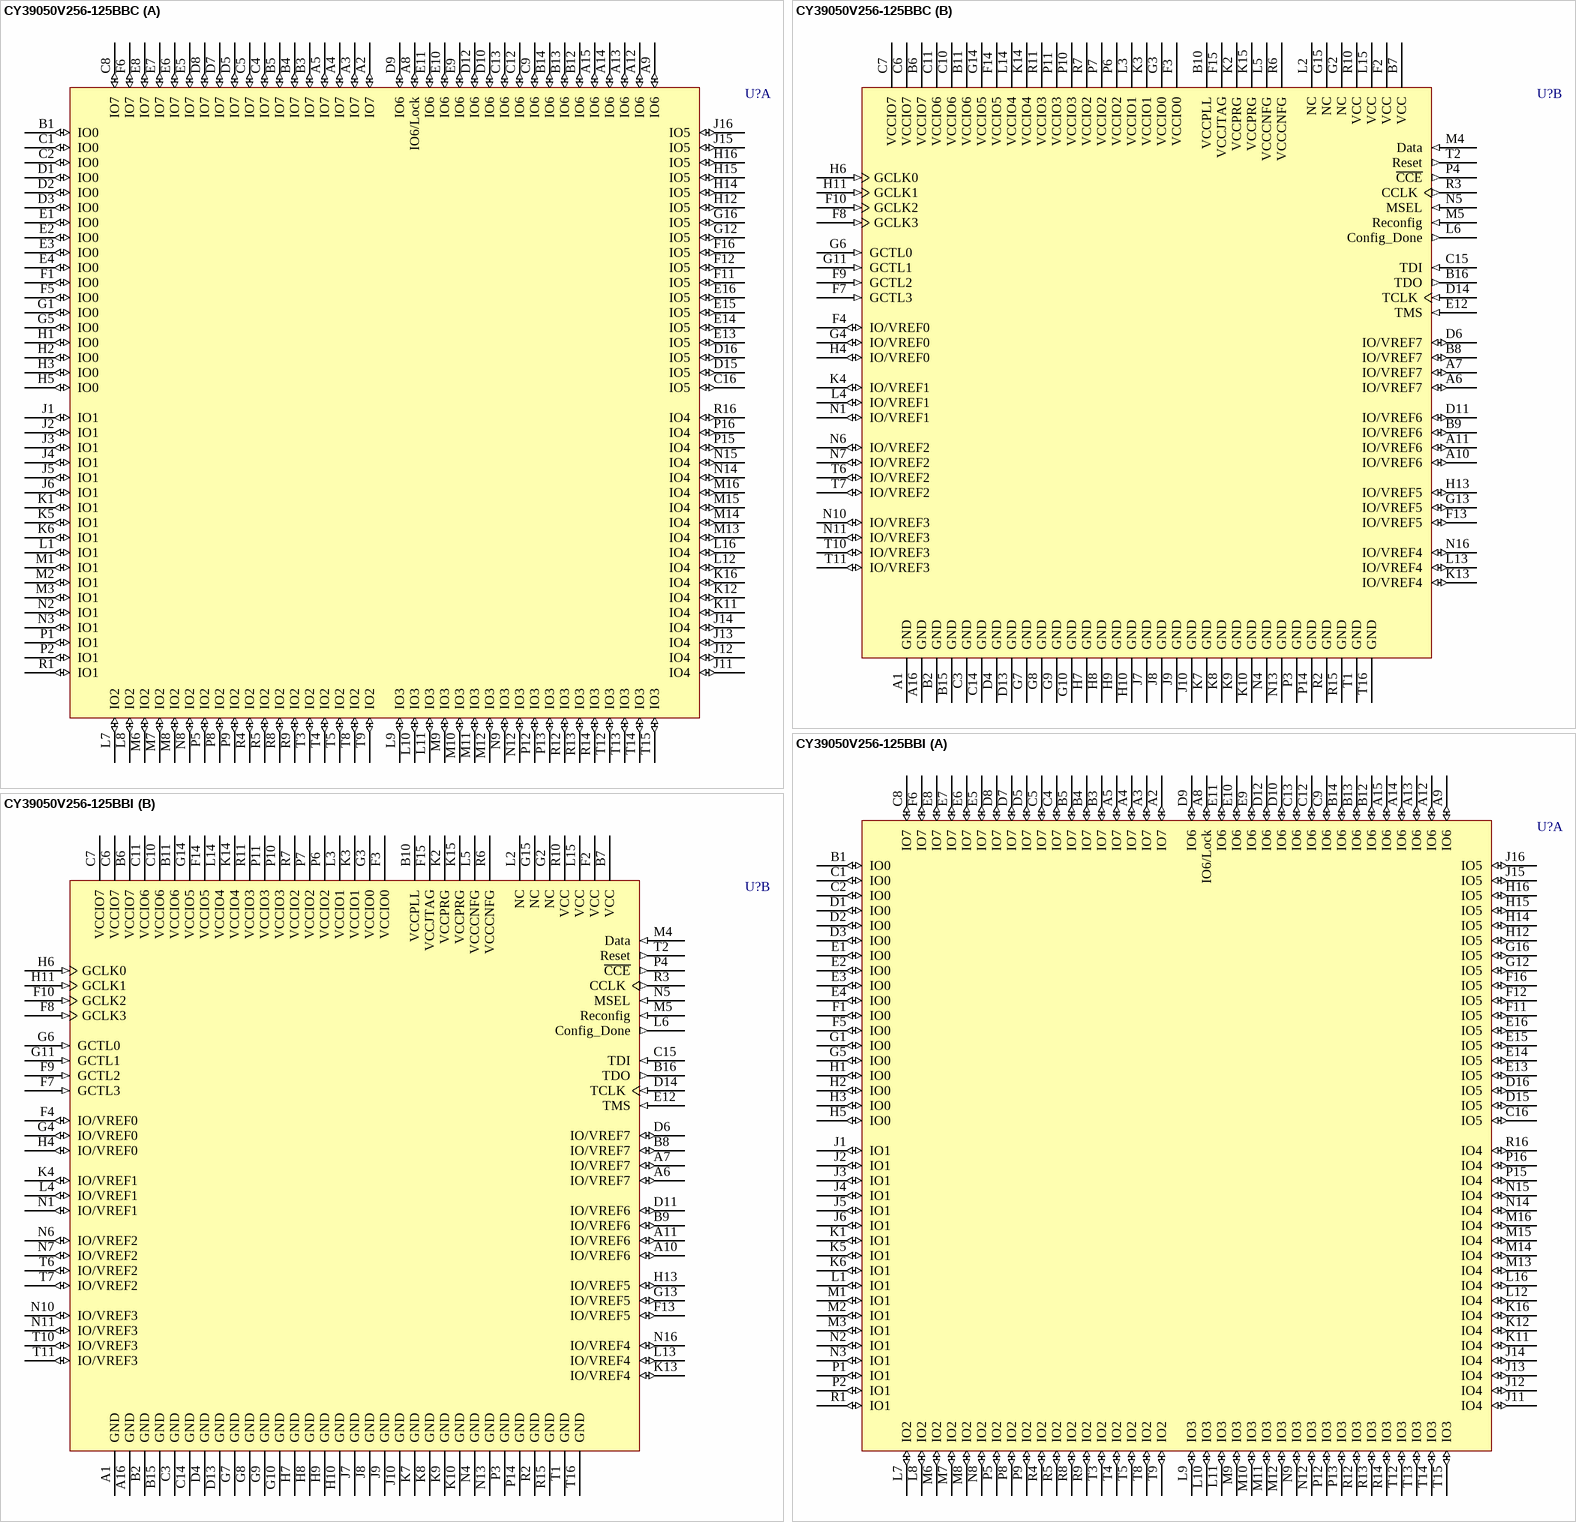
[diagram p15: symbols CY39050V256-125BBC to CY39050V256-125BBI]